# Altium footprint library ESP8266-12F.PcbLib: 1 footprints
Each footprint in its own frame and in the unit in brackets; x right, y up, seen from the top. Pads: shape width x height; smd on the part's side, far side on the other; paste and mask are expansions set on the pad; w line width, h text height; cw(c..) or ccw(c..) is an arc to the next point about the centre after c.
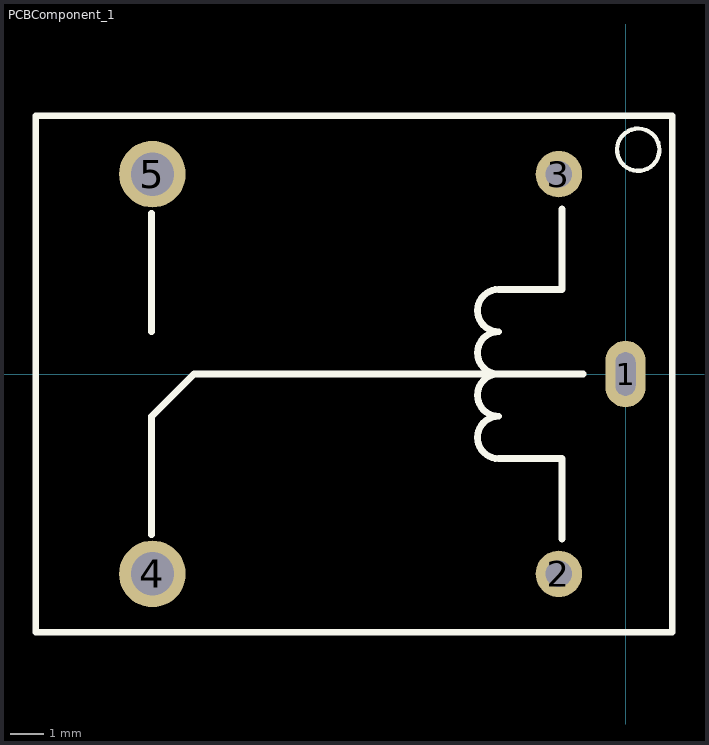
[diagram p0: the footprint, top view; thin cyan lines are the x and y axes]

## PCBComponent_1 [mm]
pads (5):
  oval 1.2x2 hole 0.6 slot 1.3 at 90 deg: 1(0,0)
  round 1.4 hole 0.8: 2(-2,-6) 3(-2,6)
  round 2 hole 1.3: 4(-14.2,-6) 5(-14.2,6)
Top Overlay:
  lines w0.127: 1.014,6.68 cw(c0.381,6.731) 1.016,6.731
  lines w0.203: -14.224,-4.826 -14.224,-1.27 -12.954,0 -1.27,0 ; -14.224,1.27 -14.224,4.826 ; -1.905,-4.953 -1.905,-2.54 -3.81,-2.54 cw(c-3.81,-1.905) -4.445,-1.905 cw(c-3.81,-1.905) -3.81,-1.27 cw(c-3.81,-0.635) -4.445,-0.635 cw(c-3.81,-0.635) -3.81,0 cw(c-3.81,0.635) -4.445,0.635 cw(c-3.81,0.635) -3.81,1.27 cw(c-3.81,1.905) -4.445,1.905 cw(c-3.81,1.905) -3.81,2.54 -1.905,2.54 -1.905,4.953 ; -17.7,-7.75 -17.7,7.75 1.4,7.75 1.4,0 1.4,-7.75 -17.7,-7.75